# EAGLE library part DIGITAL_ISOLATOR (library ISO7330C DIGITAL ISOLATOR MODULE)
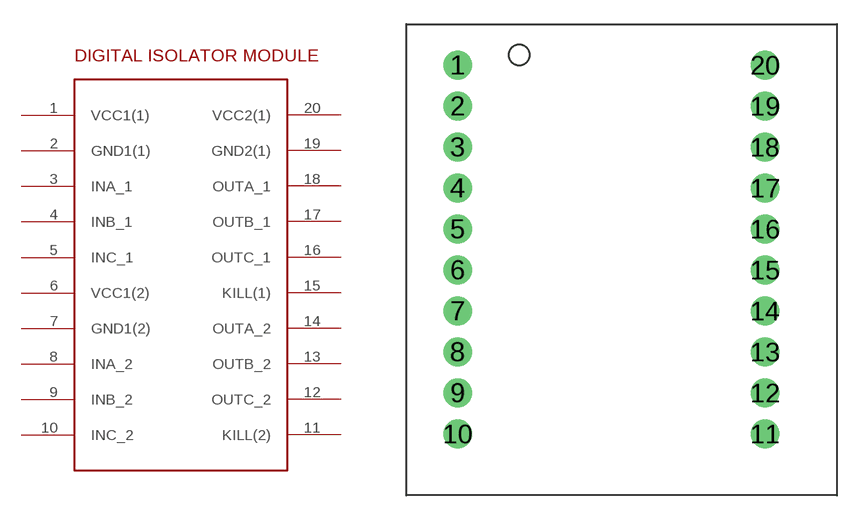
[diagram p0: symbol with the pads of DIGITAL_ISOLATOR_MODULE; footprint DIGITAL_ISOLATOR_MODULE]

Designator prefix -

## DIGITAL_ISOLATOR  [DIGITAL_ISOLATOR_MODULE]
1  VCC1(1)
2  GND1(1)
3  INA_1
4  INB_1
5  INC_1
6  VCC1(2)
7  GND1(2)
8  INA_2
9  INB_2
10  INC_2
11  KILL(2)
12  OUTC_2
13  OUTB_2
14  OUTA_2
15  KILL(1)
16  OUTC_1
17  OUTB_1
18  OUTA_1
19  GND2(1)
20  VCC2(1)

## Footprint DIGITAL_ISOLATOR_MODULE (pad centres in mm)
drill 0.9 pad 1.778: 1 3.175,26.67; 2 3.175,24.13; 3 3.175,21.59; 4 3.175,19.05; 5 3.175,16.51; 6 3.175,13.97; 7 3.175,11.43; 8 3.175,8.89; 9 3.175,6.35; 10 3.175,3.81; 11 22.225,3.81; 12 22.225,6.35; 13 22.225,8.89; 14 22.225,11.43; 15 22.225,13.97; 16 22.225,16.51; 17 22.225,19.05; 18 22.225,21.59; 19 22.225,24.13; 20 22.225,26.67